# EAGLE library part PH2X06 (library Misaka-Connector)
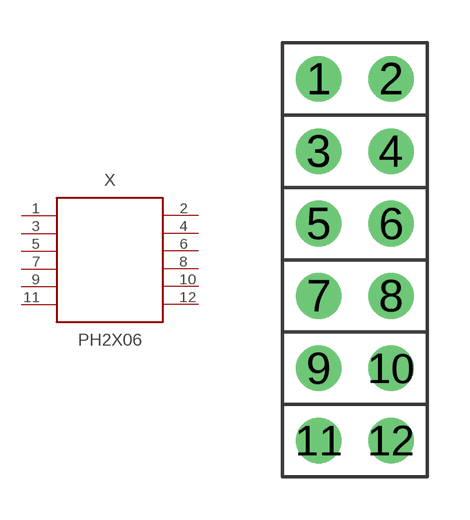
[diagram p5: symbol with the pads of PH2X06; footprint PH2X06]

Designator prefix X

## PH2X06  [PH2X06]
1  1  pas
2  2  pas
3  3  pas
4  4  pas
5  5  pas
6  6  pas
7  7  pas
8  8  pas
9  9  pas
10  10  pas
11  11  pas
12  12  pas

## Footprint PH2X06 (pad centres in mm)
drill 1 pad 1.6: 1 -1.27,6.35; 2 1.27,6.35; 3 -1.27,3.81; 4 1.27,3.81; 5 -1.27,1.27; 6 1.27,1.27; 7 -1.27,-1.27; 8 1.27,-1.27; 9 -1.27,-3.81; 10 1.27,-3.81; 11 -1.27,-6.35; 12 1.27,-6.35